# Altium footprint library light.PcbLib: 11 footprints
Each footprint in its own frame and in the unit in brackets; x right, y up, seen from the top. Pads: shape width x height; smd on the part's side, far side on the other; paste and mask are expansions set on the pad; w line width, h text height; cw(c..) or ccw(c..) is an arc to the next point about the centre after c.
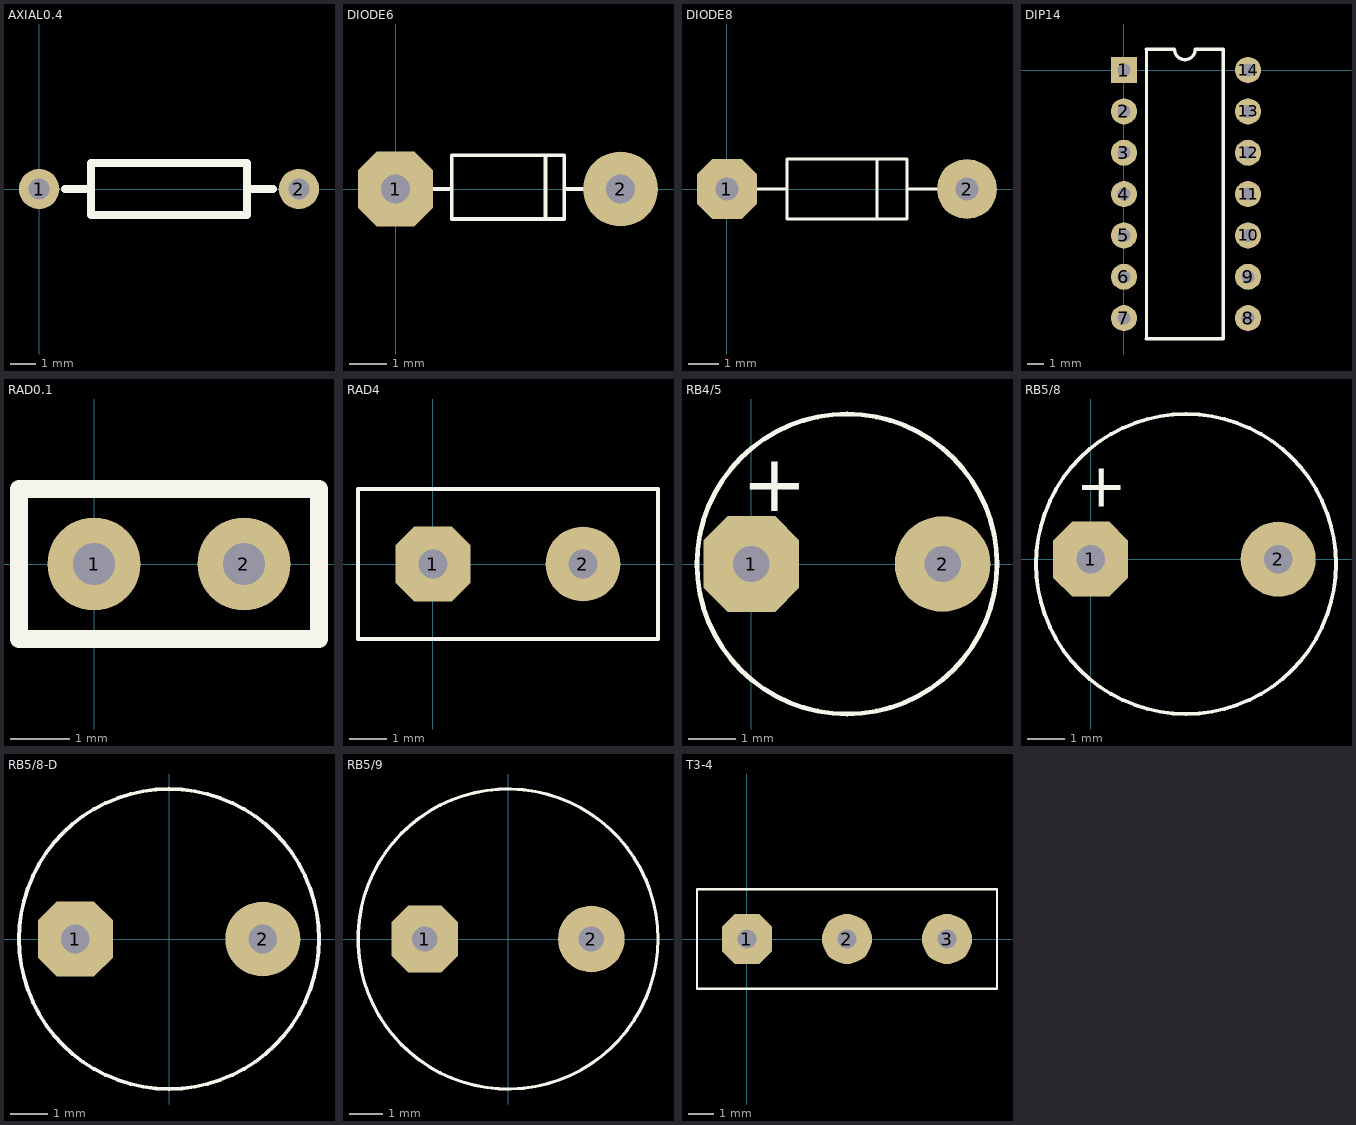
[diagram p0: the footprints below, top view; thin cyan lines are the x and y axes]

## AXIAL0.4 [mil]
pads (2):
  round 62 hole 32: 1(0,0) 2(400,0)
Top Overlay:
  lines w12: 40,0 80,0 ; 320,0 360,0 ; 80,-40 80,40 320,40 320,-40 80,-40

## DIODE6 [mm]
pads (2):
  oct 2x2 hole 0.762: 1(0,0)
  round 2 hole 0.762: 2(6,0)
Top Overlay:
  lines w0.1: 1,0 1.5,0 ; 4,-0.8 4,0.9 ; 5,0 4.5,0 ; 1.5,0 1.5,0.9 4.5,0.9 4.5,0 ; 1.5,0 1.5,-0.8 4.5,-0.8 4.5,0

## DIODE8 [mm]
pads (2):
  oct 2x2 hole 0.762: 1(0,0)
  round 2 hole 0.762: 2(8,0)
Top Overlay:
  lines w0.1: 1,0 2,0 ; 5,-1 5,1 ; 6,0 7,0 ; 2,0 2,-1 6,-1 6,1 2,1 2,0

## DIP14 [mm]
pads (14):
  rect 1.6x1.6 hole 0.8: 1(0,0)
  round 1.6 hole 0.8: 2(0,-2.54) 3(0,-5.08) 4(0,-7.62) 5(0,-10.16) 6(0,-12.7) 7(0,-15.24) 8(7.62,-15.24) 9(7.62,-12.7) 10(7.62,-10.16) 11(7.62,-7.62) 12(7.62,-5.08) 13(7.62,-2.54) 14(7.62,0)
Top Overlay:
  lines w0.2: 1.375,-16.51 6.105,-16.51 6.105,1.27 4.375,1.27 cw(c3.74,1.27) 3.105,1.27 1.375,1.27 ; 1.39,-16.52 1.39,1.26

## RAD0.1 [mil]
pads (2):
  round 62 hole 28: 1(0,0) 2(100,0)
Top Overlay:
  lines w12: -50,-50 -50,50 150,50 150,-50 -50,-50

## RAD4 [mm]
pads (2):
  oct 2x2 hole 0.762: 1(0,0)
  round 2 hole 0.762: 2(4,0)
Top Overlay:
  lines w0.1: -2,-2 6,-2 6,2 -2,2 -2,-2

## RB4/5 [mm]
pads (2):
  oct 2x2 hole 0.762: 1(0,0)
  round 2 hole 0.762: 2(4,0)
Top Overlay:
  circle w0.1: c2,0 r3.138
  text "+" at -0.2,1.1 h1.2

## RB5/8 [mm]
pads (2):
  oct 2x2 hole 0.762: 1(0,0)
  round 2 hole 0.762: 2(5,0)
Top Overlay:
  circle w0.1: c2.54,-0.127 r4
  text "+" at -0.4,1.4 h1.2

## RB5/8-D [mm]
pads (2):
  oct 2x2 hole 0.762: 1(-2.5,0)
  round 2 hole 0.762: 2(2.5,0)
Top Overlay:
  circle w0.1: c0,0 r4

## RB5/9 [mm]
pads (2):
  oct 2x2 hole 0.762: 1(-2.5,0)
  round 2 hole 0.762: 2(2.5,0)
Top Overlay:
  circle w0.1: c0,0 r4.5

## T3-4 [mm]
pads (3):
  oct 2x2 hole 0.762: 1(0,0)
  round 2 hole 0.762: 2(4,0) 3(8,0)
Top Overlay:
  lines w0.1: -2,-2 10,-2 10,2 -2,2 -2,-2